# EAGLE library part PLUG6PIN (library My_FTDI)
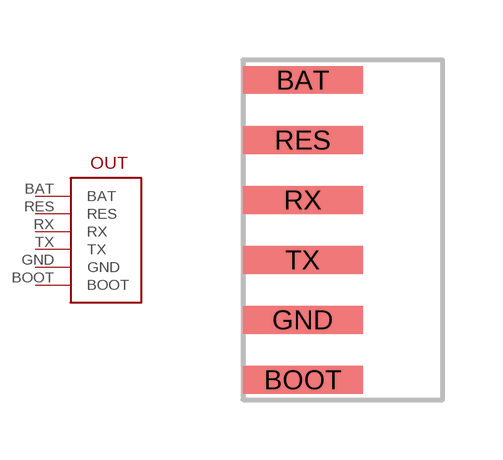
[diagram p1: symbol with the pads of PLUG6PIN; footprint PLUG6PIN]

Designator prefix -

## PLUG6PIN  [PLUG6PIN]
BAT  BAT
BOOT  BOOT
GND  GND
RES  RES
RX  RX
TX  TX

## Footprint PLUG6PIN (pad centres in mm)
smd 3 x 0.7: BAT 0,4.5; BOOT 0,-3; GND 0,-1.5; RES 0,3; RX 0,1.5; TX 0,0